# Altium footprint library ACS712ELCTR05BT.PcbLib: 1 footprints
Each footprint in its own frame and in the unit in brackets; x right, y up, seen from the top. Pads: shape width x height; smd on the part's side, far side on the other; paste and mask are expansions set on the pad; w line width, h text height; cw(c..) or ccw(c..) is an arc to the next point about the centre after c.
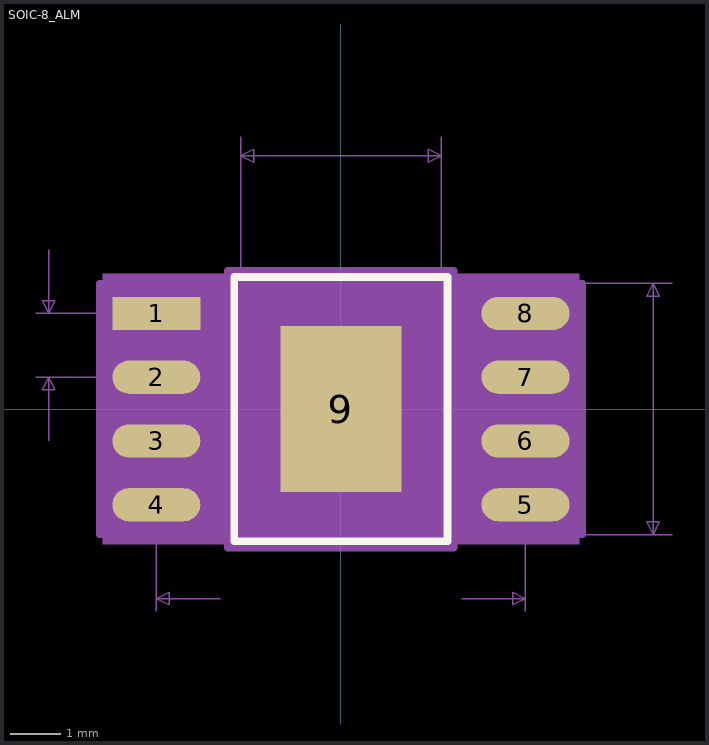
[diagram p0: the footprint, top view; thin cyan lines are the x and y axes]

## SOIC-8_ALM [mil]
pads (9):
  rect 69x26 smd paste+0 mask+0: 1(-144.69,75)
  oval 69x26 smd paste+0 mask+0: 2(-144.69,25) 3(-144.69,-25) 4(-144.69,-75) 5(144.69,-75) 6(144.69,-25) 7(144.69,25) 8(144.69,75)
  rect 95x130 smd paste-64.5 mask+0: 9(0,0)
Top Overlay:
  lines w6: -83.5,-103.5 83.5,-103.5 83.5,103.5 -83.5,103.5 -83.5,-103.5
Top Paste:
  region: 43.56,61.06 -43.56,61.06 -43.56,3.94 43.56,3.94
  region: 43.56,-3.94 -43.56,-3.94 -43.56,-61.06 43.56,-61.06
Mechanical 5:
  region: 186.69,-106 -186.69,-106 -186.69,106 186.69,106
Mechanical 7:
  lines w1: -239.19,25 -144.69,25 ; -239.19,75 -144.69,75 ; -229.19,-25 -229.19,25 ; -229.19,125 -229.19,75 ; -144.69,-158.5 -144.69,-75 ; -94.69,-148.5 -144.69,-148.5 ; -78.5,98.5 -78.5,213.5 ; 78.5,-98.5 259.69,-98.5 ; 78.5,213.5 78.5,98.5 259.69,98.5 ; 94.69,-148.5 144.69,-148.5 ; 144.69,-158.5 144.69,-75 ; -229.19,25 -224.19,15 -234.19,15 -229.19,25 ; -229.19,75 -224.19,85 -234.19,85 -229.19,75 ; -144.69,-148.5 -134.69,-153.5 -134.69,-143.5 -144.69,-148.5 ; -78.5,198.5 78.5,198.5 ; -78.5,198.5 -68.5,203.5 -68.5,193.5 -78.5,198.5 ; 78.5,198.5 68.5,203.5 68.5,193.5 78.5,198.5 ; 144.69,-148.5 134.69,-153.5 134.69,-143.5 144.69,-148.5 ; 244.69,-98.5 244.69,98.5 ; 244.69,-98.5 239.69,-88.5 249.69,-88.5 244.69,-98.5 ; 244.69,98.5 239.69,88.5 249.69,88.5 244.69,98.5
  text "Default Padstyle: OX69Y26D0T" at -350,-298.5 h50
  text "Pin 1 Padstyle: RX69Y26D0T" at -325,-358.5 h50
  text "Heat Tab Padstyle: RX95Y130D0T" at -375,-418.5 h50
  text "Alt 1 Padstyle: OX60Y90D30P" at -337.5,-538.5 h50
  text "Alt 2 Padstyle: OX90Y60D30P" at -337.5,-598.5 h50
  text ".05in/1.27mm" at -389.19,37.5 h25
  text ".2893701in/7.35mm" at -106.25,-173.5 h25
  text "0.157in/3.988mm" at -93.75,218.5 h25
  text "0.197in/5.004mm" at 264.69,-12.5 h25
Mechanical 13:
  circle w0: c-68.5,75 r0
  lines w0: -12,98.5 ccw(c0,98.5) 12,98.5
  lines w1: -78.5,-98.5 78.5,-98.5 78.5,98.5 -78.5,98.5 -78.5,-98.5
Mechanical 15:
  region: -88.5,-98 -189.19,-98 -189.19,98 -88.5,98 -88.5,108.5 88.5,108.5 88.5,98 189.19,98 189.19,-98 88.5,-98 88.5,-108.5 -88.5,-108.5
  lines w6: -189.19,-98 -189.19,98 -88.5,98 -88.5,108.5 88.5,108.5 88.5,98 189.19,98 189.19,-98 88.5,-98 88.5,-108.5 -88.5,-108.5 -88.5,-98 -189.19,-98
3D body: height 10, standoff 0, extent 0,0 10,10